# EAGLE library part 1050170001 (library Oscilloscope Component Library)
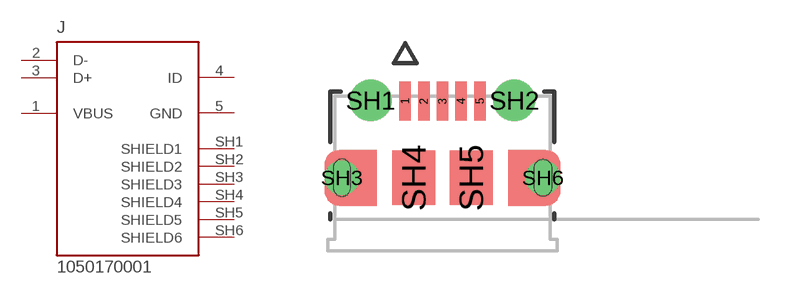
[diagram p4: symbol with the pads of MOLEX_1050170001; footprint MOLEX_1050170001]

Designator prefix J

## 1050170001 (CHECK_PRICES: https://www.snapeda.com/parts/1050170001/Molex/view-part/?ref=eda; DESCRIPTION: USB - micro B USB 2.0 Receptacle Connector 5 Position Surface Mount, Right Angle; Through Hole; DIGIKEY_PART_NUMBER: WM1399TR-ND; MF: Molex; MP: 1050170001; PACKAGE: None; PURCHASE-URL: https://www.snapeda.com/api/url_track_click_mouser/?unipart_id=2755530&manufacturer=Molex&part_name=1050170001&search_term=None; SNAPEDA_LINK: https://www.snapeda.com/parts/1050170001/Molex/view-part/?ref=snap)  [MOLEX_1050170001]
1  VBUS  pwr
2  D-
3  D+
4  ID
5  GND  pwr
SH1  SHIELD1  pas
SH2  SHIELD2  pas
SH3  SHIELD3  pas
SH4  SHIELD4  pas
SH5  SHIELD5  pas
SH6  SHIELD6  pas

## Footprint MOLEX_1050170001 (pad centres in mm)
smd 0.4 x 1.35: 1 -1.3,4.125; 2 -0.65,4.125; 3 0,4.125; 4 0.65,4.125; 5 1.3,4.125
drill 0.85 pad 1.45: SH1 -2.5,4.15; SH2 2.5,4.15
drill 0.6 pad 1.2: SH3 -3.5,1.45; SH6 3.5,1.45
smd 1.5 x 1.9: SH4 -1,1.45; SH5 1,1.45